# EAGLE library part LMZ10503 (library dan-vreg)
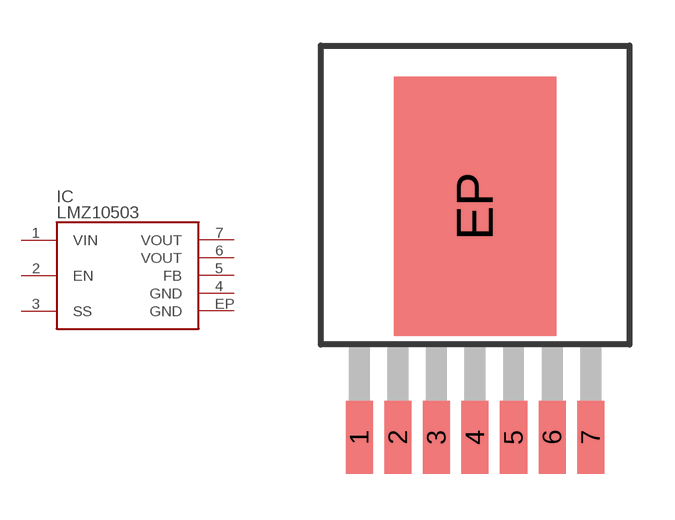
[diagram p0: symbol with the pads of TO-PMOD-7; footprint TO-PMOD-7]

Designator prefix IC

## LMZ10503  [TO-PMOD-7]
1  VIN  pas
2  EN  pas
3  SS  pas
4  GND  pas
5  FB  pas
6  VOUT  pas
7  VOUT  pas
EP  GND  pas

## Footprint TO-PMOD-7 (pad centres in mm)
TO-PMOD-7 From National LMZ10503 datasheet
smd 0.89 x 2.41: 1 -3.81,0; 2 -2.54,0; 3 -1.27,0; 4 0,0; 5 1.27,0; 6 2.54,0; 7 3.81,0
smd 5.35 x 8.54: EP 0,7.62